# Altium footprint library Seiko Instruments.PcbLib: 1 footprints
Each footprint in its own frame and in the unit in brackets; x right, y up, seen from the top. Pads: shape width x height; smd on the part's side, far side on the other; paste and mask are expansions set on the pad; w line width, h text height; cw(c..) or ccw(c..) is an arc to the next point about the centre after c.
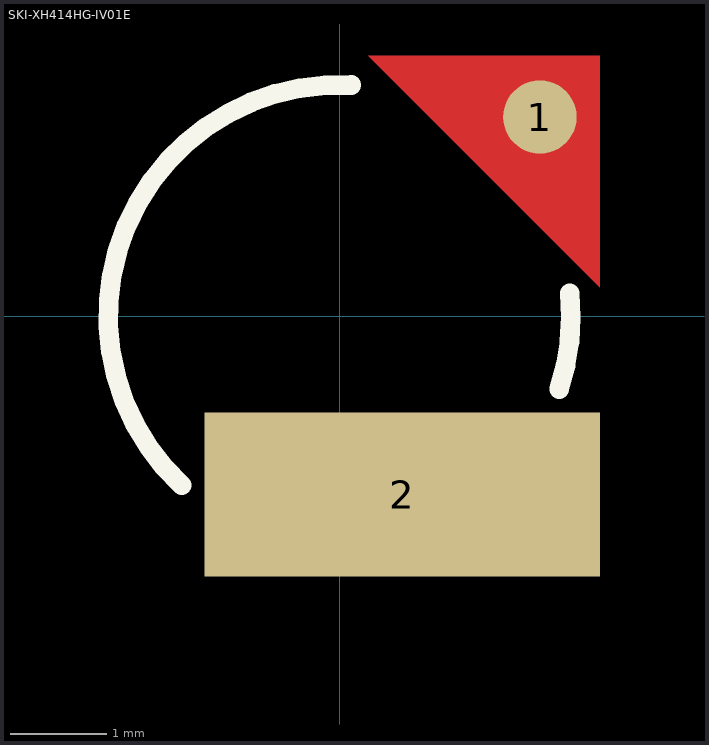
[diagram p0: the footprint, top view; thin cyan lines are the x and y axes]

## SKI-XH414HG-IV01E [mm]
height 0.043
pads (2):
  round 0.762 smd: 1(2.078,2.065)
  rect 4.1x1.7 smd: 2(0.65,-1.85)
Top Layer:
  region: 2.7,0.3 0.3,2.7 2.7,2.7
Top Overlay:
  lines w0.203: -1.638,-1.755 cw(c0,0) 0.12,2.397 ; 2.277,-0.759 ccw(c0,0) 2.388,0.239
3D body "User Library-XH414H-IV01E.STEP": height 1.62, standoff 0, extent -2.4,-2.4 2.401,2.4